# Altium footprint library 2201778-1.PcbLib: 1 footprints
Each footprint in its own frame and in the unit in brackets; x right, y up, seen from the top. Pads: shape width x height; smd on the part's side, far side on the other; paste and mask are expansions set on the pad; w line width, h text height; cw(c..) or ccw(c..) is an arc to the next point about the centre after c.
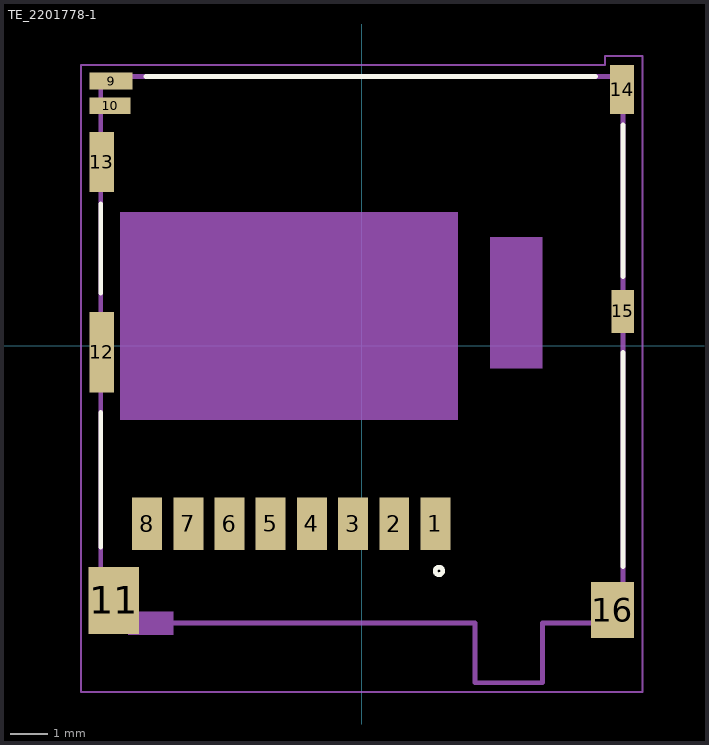
[diagram p0: the footprint, top view; thin cyan lines are the x and y axes]

## TE_2201778-1 [mm]
pads (16):
  rect 0.8x1.4 smd: 1(1.965,-4.75) 2(0.865,-4.75) 3(-0.235,-4.75) 4(-1.335,-4.75) 5(-2.435,-4.75) 6(-3.535,-4.75) 7(-4.635,-4.75) 8(-5.735,-4.75)
  rect 1.15x0.45 smd: 9(-6.7,7.075)
  rect 1.1x0.45 smd: 10(-6.725,6.415)
  rect 1.35x1.8 smd: 11(-6.625,-6.8)
  rect 0.65x2.14 smd: 12(-6.95,-0.17)
  rect 0.65x1.6 smd: 13(-6.95,4.91)
  rect 0.65x1.3 smd: 14(6.95,6.85)
  rect 0.6x1.15 smd: 15(6.975,0.925)
  rect 1.16x1.5 smd: 16(6.695,-7.05)
Top Overlay:
  circle w0.127: c2.06,-6.01 r0.1
  lines w0.127: -6.975,-5.38 -6.975,-1.77 ; -6.975,1.41 -6.975,3.8 ; -5.77,7.2 6.24,7.2 ; 6.975,-5.9 6.975,-0.17 ; 6.975,1.85 6.975,5.91
Mechanical 1:
  lines w0.127: 6.965,-7.4 4.825,-7.4 4.825,-9 3.025,-9 3.025,-7.4 -6.975,-7.4 -6.975,7.2 6.975,7.2 6.975,-7.4
Mechanical 4:
  region: -6.241,-7.1 -5.045,-7.1 -5.045,-7.72 -6.241,-7.72
  region: -6.453,3.57 2.565,3.57 2.565,-1.966 -6.453,-1.966
  region: 3.426,2.9 4.825,2.9 4.825,-0.6 3.426,-0.6
  lines w0.05: -7.5,-9.25 -7.5,7.5 6.5,7.5 6.5,7.75 7.5,7.75 7.5,-9.25 -7.5,-9.25